# Altium schematic symbol library Bourns.SchLib: 3 symbols
Pins are listed as number, name and electrical type; pins without a type are passive.

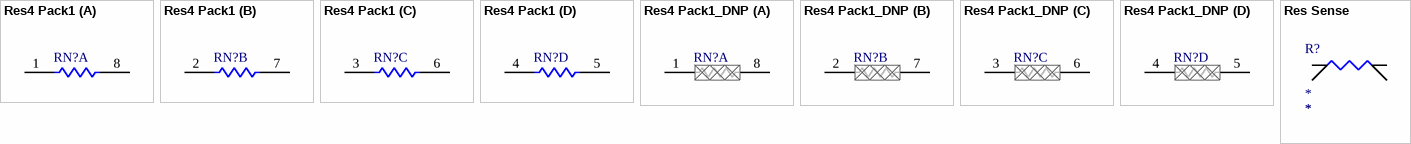
[diagram p0: symbols Res4 Pack1 to Res Sense]

## Res4 Pack1
designator RN?  (value not drawn)
Isolated Resistor Network - Parts; Sim Note: Enter the Resistance value into parameter field.; Code_JEDEC: MS-012-AC
simulation model RESISTOR (Resistor)
signal-integrity model Res Pack
part A pins: 1, 8
part B pins: 2, 7
part C pins: 3, 6
part D pins: 4, 5

## Res4 Pack1_DNP
designator RN?  (value not drawn)  (no BOM)
Isolated Resistor Network - Parts; Sim Note: Enter the Resistance value into parameter field.; Code_JEDEC: MS-012-AC
simulation model RESISTOR (Resistor)
signal-integrity model Res Pack
part A pins: 1, 8
part B pins: 2, 7
part C pins: 3, 6
part D pins: 4, 5

## Res Sense
designator R?  (value not drawn)
Power - Rated: *; Value: *; Tolerance: *
pins: 1 I1, 2 I2, 3 S2, 4 S1